# EAGLE library part EXB28V (library Panasonic-EXB-ERJ)
Chip Resistor Array
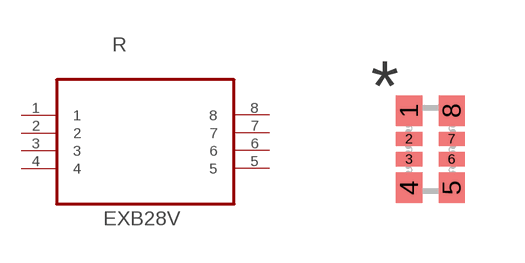
[diagram p1: symbol with the pads of RESCAXE50P210X110X45-8N; footprint RESCAXE50P210X110X45-8N]

Designator prefix R

## EXB28V100JX (MPN: EXB28V100JX; OC_FARNELL: 2060029; OC_NEWARK: 65T9053; PACKAGE: 0402; POWERRATING: 0.063 W/element; SUPPLIER: PANASONIC; TOLERANCE: ±5 %; VALUE: 10R), EXB28V101JX (MPN: EXB28V101JX; OC_FARNELL: 2060044; OC_NEWARK: 65T9054; PACKAGE: 0402; POWERRATING: 0.063 W/element; SUPPLIER: PANASONIC; TOLERANCE: ±5 %; VALUE: 100R), EXB28V102JX (MPN: EXB28V102JX; OC_FARNELL: 2060051; OC_NEWARK: 65T9055; PACKAGE: 0402; POWERRATING: 0.063 W/element; SUPPLIER: PANASONIC; TOLERANCE: ±5 %; VALUE: 1K), EXB28V103JX (MPN: EXB28V103JX; OC_FARNELL: 2060058; OC_NEWARK: 65T9056; PACKAGE: 0402; POWERRATING: 0.063 W/element; SUPPLIER: PANASONIC; TOLERANCE: ±5 %; VALUE: 10K), EXB28V104JX (MPN: EXB28V104JX; OC_FARNELL: 2060062; OC_NEWARK: 65T9057; PACKAGE: 0402; POWERRATING: 0.063 W/element; SUPPLIER: PANASONIC; TOLERANCE: ±5 %; VALUE: 100K), EXB28V121JX (MPN: EXB28V121JX; OC_FARNELL: 2060045; OC_NEWARK: 65T9058; PACKAGE: 0402; POWERRATING: 0.063 W/element; SUPPLIER: PANASONIC; TOLERANCE: ±5 %; VALUE: 120R), EXB28V150JX (MPN: EXB28V150JX; OC_FARNELL: 2060030; OC_NEWARK: 65T9059; PACKAGE: 0402; POWERRATING: 0.063 W/element; SUPPLIER: PANASONIC; TOLERANCE: ±5 %; VALUE: 15R), EXB28V201JX (MPN: EXB28V201JX; OC_FARNELL: 2060046; OC_NEWARK: 65T9060; PACKAGE: 0402; POWERRATING: 0.063 W/element; SUPPLIER: PANASONIC; TOLERANCE: ±5 %; VALUE: 200R), EXB28V220JX (MPN: EXB28V220JX; OC_FARNELL: 2060031; OC_NEWARK: 65T9061; PACKAGE: 0402; POWERRATING: 0.063 W/element; SUPPLIER: PANASONIC; TOLERANCE: ±5 %; VALUE: 22R), EXB28V222JX (MPN: EXB28V222JX; OC_FARNELL: 2060052; OC_NEWARK: 65T9062; PACKAGE: 0402; POWERRATING: 0.063 W/element; SUPPLIER: PANASONIC; TOLERANCE: ±5 %; VALUE: 2K2), EXB28V223JX (MPN: EXB28V223JX; OC_FARNELL: 2060059; OC_NEWARK: 65T9063; PACKAGE: 0402; POWERRATING: 0.063 W/element; SUPPLIER: PANASONIC; TOLERANCE: ±5 %; VALUE: 22K), EXB28V240JX (MPN: EXB28V240JX; OC_FARNELL: 2060032; OC_NEWARK: 65T9064; PACKAGE: 0402; POWERRATING: 0.063 W/element; SUPPLIER: PANASONIC; TOLERANCE: ±5 %; VALUE: 24R), EXB28V270JX (MPN: EXB28V270JX; OC_FARNELL: 2060033; OC_NEWARK: 65T9065; PACKAGE: 0402; POWERRATING: 0.063 W/element; SUPPLIER: PANASONIC; TOLERANCE: ±5 %; VALUE: 27R), EXB28V300JX (MPN: EXB28V300JX; OC_FARNELL: 2060034; OC_NEWARK: 65T9066; PACKAGE: 0402; POWERRATING: 0.063 W/element; SUPPLIER: PANASONIC; TOLERANCE: ±5 %; VALUE: 30R), EXB28V302JX (MPN: EXB28V302JX; OC_FARNELL: 2060053; OC_NEWARK: 65T9067; PACKAGE: 0402; POWERRATING: 0.063 W/element; SUPPLIER: PANASONIC; TOLERANCE: ±5 %; VALUE: 3K), EXB28V330JX (MPN: EXB28V330JX; OC_FARNELL: 2060035; OC_NEWARK: 65T9068; PACKAGE: 0402; POWERRATING: 0.063 W/element; SUPPLIER: PANASONIC; TOLERANCE: ±5 %; VALUE: 33R), EXB28V331JX (MPN: EXB28V331JX; OC_FARNELL: 2060047; OC_NEWARK: Unknown; PACKAGE: 0402; POWERRATING: 0.063 W/element; SUPPLIER: PANASONIC; TOLERANCE: ±5 %; VALUE: 330R), EXB28V332JX (MPN: EXB28V332JX; OC_FARNELL: 2060054; OC_NEWARK: 65T9070; PACKAGE: 0402; POWERRATING: 0.063 W/element; SUPPLIER: PANASONIC; TOLERANCE: ±5 %; VALUE: 3K3), EXB28V390JX (MPN: EXB28V390JX; OC_FARNELL: 2060037; OC_NEWARK: 65T9071; PACKAGE: 0402; POWERRATING: 0.063 W/element; SUPPLIER: PANASONIC; TOLERANCE: ±5 %; VALUE: 39R), EXB28V470JX (MPN: EXB28V470JX; OC_FARNELL: 2060038; OC_NEWARK: 65T9072; PACKAGE: 0402; POWERRATING: 0.063 W/element; SUPPLIER: PANASONIC; TOLERANCE: ±5 %; VALUE: 47R), EXB28V471JX (MPN: EXB28V471JX; OC_FARNELL: 2060049; OC_NEWARK: 65T9073; PACKAGE: 0402; POWERRATING: 0.063 W/element; SUPPLIER: PANASONIC; TOLERANCE: ±5 %; VALUE: 470R), EXB28V472JX (MPN: EXB28V472JX; OC_FARNELL: 2060055; OC_NEWARK: 65T9074; PACKAGE: 0402; POWERRATING: 0.063 W/element; SUPPLIER: PANASONIC; TOLERANCE: ±5 %; VALUE: 4K7), EXB28V473JX (MPN: EXB28V473JX; OC_FARNELL: 2060060; OC_NEWARK: 65T9075; PACKAGE: 0402; POWERRATING: 0.063 W/element; SUPPLIER: PANASONIC; TOLERANCE: ±5 %; VALUE: 47K), EXB28V510JX (MPN: EXB28V510JX; OC_FARNELL: 2060039; OC_NEWARK: 65T9076; PACKAGE: 0402; POWERRATING: 0.063 W/element; SUPPLIER: PANASONIC; TOLERANCE: ±5 %; VALUE: 51R), EXB28V560JX (MPN: EXB28V560JX; OC_FARNELL: 2060040; OC_NEWARK: 65T9077; PACKAGE: 0402; POWERRATING: 0.063 W/element; SUPPLIER: PANASONIC; TOLERANCE: ±5 %; VALUE: 56R), EXB28V620JX (MPN: EXB28V620JX; OC_FARNELL: 2060041; OC_NEWARK: 65T9078; PACKAGE: 0402; POWERRATING: 0.063 W/element; SUPPLIER: PANASONIC; TOLERANCE: ±5 %; VALUE: 62R), EXB28V680JX (MPN: EXB28V680JX; OC_FARNELL: 2060042; OC_NEWARK: Unknown; PACKAGE: 0402; POWERRATING: 0.063 W/element; SUPPLIER: PANASONIC; TOLERANCE: ±5 %; VALUE: 68R), EXB28V682JX (MPN: EXB28V682JX; OC_FARNELL: 2060056; OC_NEWARK: 65T9080; PACKAGE: 0402; POWERRATING: 0.063 W/element; SUPPLIER: PANASONIC; TOLERANCE: ±5 %; VALUE: 6K8), EXB28V750JX (MPN: EXB28V750JX; OC_FARNELL: 2060043; OC_NEWARK: 65T9081; PACKAGE: 0402; POWERRATING: 0.063 W/element; SUPPLIER: PANASONIC; TOLERANCE: ±5 %; VALUE: 75R), EXB28V822JX (MPN: EXB28V822JX; OC_FARNELL: 2060057; OC_NEWARK: 65T9082; PACKAGE: 0402; POWERRATING: 0.063 W/element; SUPPLIER: PANASONIC; TOLERANCE: ±5 %; VALUE: 8K2), EXB28VR000X (MPN: EXB28VR000X; OC_FARNELL: 2060028; OC_NEWARK: 65T9052; PACKAGE: 0402; POWERRATING: 0.063 W/element; SUPPLIER: PANASONIC; TOLERANCE: Jumper; VALUE: 0R)  [RESCAXE50P210X110X45-8N]
1  1  pas
2  2  pas
3  3  pas
4  4  pas
5  5  pas
6  6  pas
7  7  pas
8  8  pas

## Footprint RESCAXE50P210X110X45-8N (pad centres in mm)
smd 0.66 x 0.762: 1 -0.533,0.965; 4 -0.533,-0.965; 5 0.533,-0.965; 8 0.533,0.965
smd 0.66 x 0.356: 2 -0.533,0.254; 3 -0.533,-0.254; 6 0.533,-0.254; 7 0.533,0.254